# Altium integrated library MAX31865ATP_.IntLib: 1 symbol
Pins are listed as number, name and electrical type; pins without a type are passive.

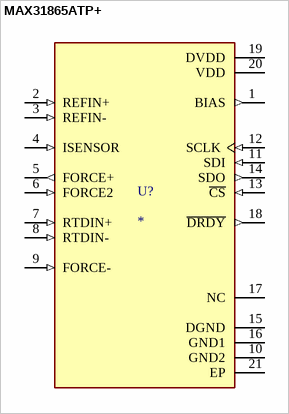
[diagram p0: symbol MAX31865ATP+]

## MAX31865ATP+
designator U?
RTD-to-Digital Converter; MF: Analog Devices; MP: MAX31865ATP+; SnapEDA_Link: https://www.snapeda.com/parts/MAX31865ATP+/Analog+Devices/view-part/?ref=snap; Package: QFN-20 Maxim; Value: *; Check_prices: https://www.snapeda.com/parts/MAX31865ATP+/Analog+Devices/view-part/?ref=eda
footprint QFN65P500X500X80-21N
pins: 1 BIAS (out), 2 REFIN+ (in), 3 REFIN- (in), 4 ISENSOR (in), 5 FORCE+ (out), 6 FORCE2 (in), 7 RTDIN+ (in), 8 RTDIN- (in), 9 FORCE- (in), 10 GND2 (power), 11 SDI (in), 12 SCLK (in), 13 ~{CS} (in), 14 SDO (out), 15 DGND (power), 16 GND1 (power), 17 NC, 18 ~{DRDY} (out), 19 DVDD (power), 20 VDD (power), 21 EP (power)